# EAGLE library part ESP12 (library Semiconductors > Embedded Processors & Controllers > Microcontrollers - MCU)
ESP8266 Wifi module 12
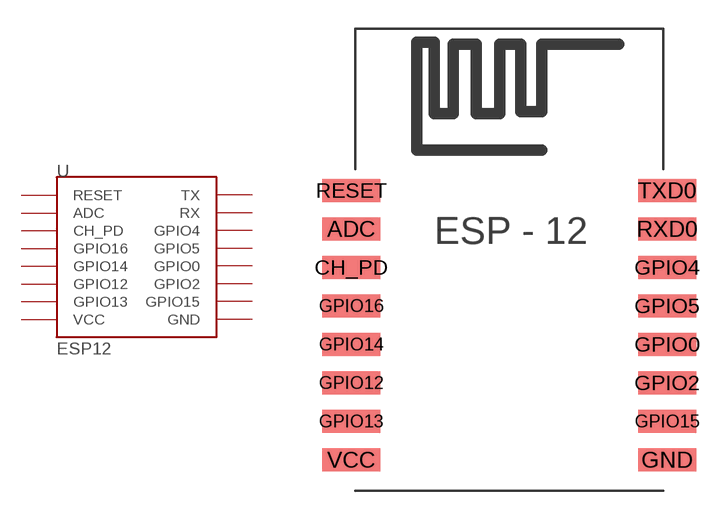
[diagram p6: symbol with the pads of ESP12-SMD; footprint ESP12-SMD]

Designator prefix U

## ESP12SMD  [ESP12-SMD]
ADC  ADC
CH_PD  CH_PD
GND  GND
GPIO0  GPIO0
GPIO2  GPIO2
GPIO4  GPIO4
GPIO5  GPIO5
GPIO12  GPIO12
GPIO13  GPIO13
GPIO14  GPIO14
GPIO15  GPIO15
GPIO16  GPIO16
RESET  RESET
RXD0  RX
TXD0  TX
VCC  VCC

## Footprint ESP12-SMD (pad centres in mm)
ESP8266 Module 12 SMD pads
smd 3 x 1.2: ADC -8.3,3.8; CH_PD -8.3,1.8; GND 8.1,-8.2; GPIO0 8.1,-2.2; GPIO2 8.1,-4.2; GPIO4 8.1,1.8; GPIO5 8.1,-0.2; GPIO12 -8.3,-4.2; GPIO13 -8.3,-6.2; GPIO14 -8.3,-2.2; GPIO15 8.1,-6.2; GPIO16 -8.3,-0.2; RESET -8.3,5.8; RXD0 8.1,3.8; TXD0 8.1,5.8; VCC -8.3,-8.2